# Altium integrated library Big_Library_Cap_Film.IntLib: 4 symbols
Pins are listed as number, name and electrical type; pins without a type are passive.

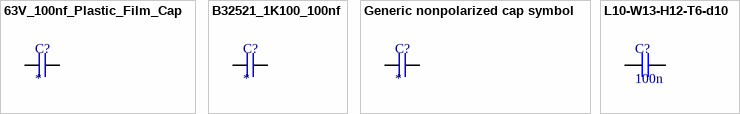
[diagram p0: symbols 63V_100nf_Plastic_Film_Cap to L10-W13-H12-T6-d10]

## 63V_100nf_Plastic_Film_Cap
designator C?
footprint 2.5x7x6_THT_Plastic_Film_Cap
pins: 1, 2

## B32521_1K100_100nf
designator C?
footprint 4x13x9_THT_Plastic_Film_Cap
pins: 1, 2

## Generic nonpolarized cap symbol
designator C?
pins: 1, 2

## L10-W13-H12-T6-d10
designator C?, comment 100n
Plastic Film Capacitor; Voltage: 310VAC; Tolerance: 10%; Class: X2; Capacitance: 100n; ComponentLink1Description: Link1; ComponentLink1URL: *; Lead Spacing: 10mm; Dimensions: W10-H12-T6-d0.6
footprint 13X12X16mm-L10MM
pins: 1, 2